# EAGLE library part LTC3424 (library Mine)
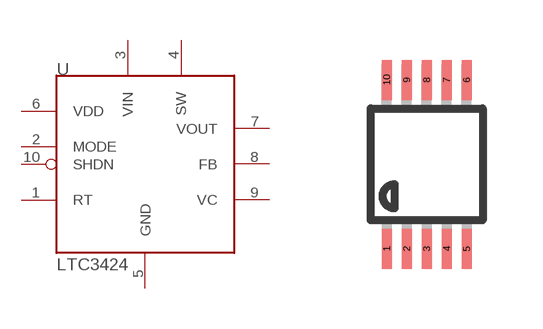
[diagram p57: symbol with the pads of MSOP10; footprint MSOP10]

Designator prefix -

## LTC3424  [MSOP10]
1  RT  in
2  MODE  in
3  VIN  in
4  SW  in
5  GND  pwr
6  VDD  pwr
7  VOUT  out
8  FB  in
9  VC
10  SHDN  in

## Footprint MSOP10 (pad centres in mm)
10-Lead Mini Small Outline Package [MSOP] (RM-10) Source: http://www.analog.com/UploadedFiles/Data_Sheets/35641221898805SSM2167_b.pdf COMPLIANT TO JEDEC STANDARDS MO-187BA
smd 0.25 x 1: 1 -1,-2.113; 2 -0.5,-2.113; 3 0,-2.113; 4 0.5,-2.113; 5 1,-2.113; 6 1,2.113; 7 0.5,2.113; 8 0,2.113; 9 -0.5,2.113; 10 -1,2.113